# Altium footprint library PcbLibCapasitors.PcbLib: 16 footprints
Each footprint in its own frame and in the unit in brackets; x right, y up, seen from the top. Pads: shape width x height; smd on the part's side, far side on the other; paste and mask are expansions set on the pad; w line width, h text height; cw(c..) or ccw(c..) is an arc to the next point about the centre after c.
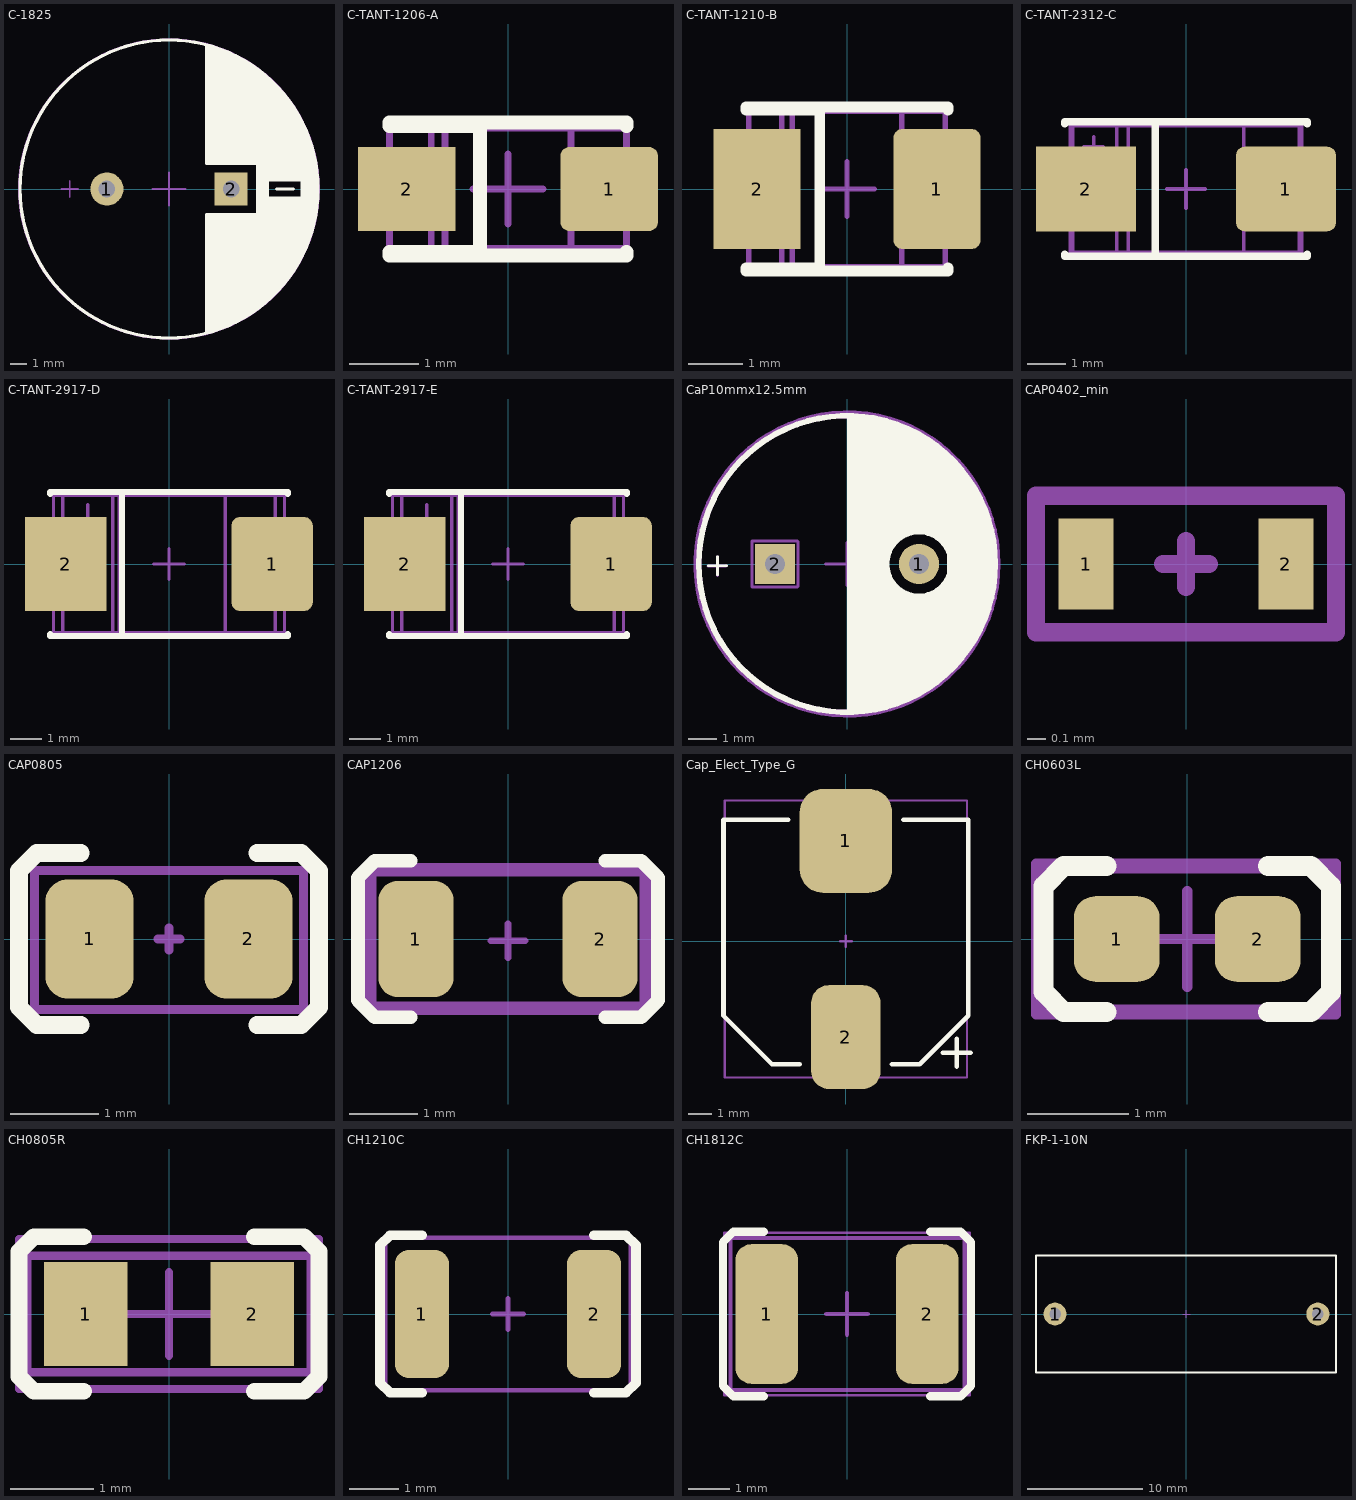
[diagram p0: the footprints below, top view; thin cyan lines are the x and y axes]

## C-1825 [mm] "18mmx25mm"
height 25
pads (2):
  round 2 hole 1: 1(-3.75,0)
  rect 2x2 hole 1: 2(3.75,0)
Top Overlay:
  drawing of 15 lines, arcs and shapes, not listed
TopAssy:
  circle w0.1: c3.75,0 r0.492
  circle w0.1: c-3.75,0 r0.492
  circle w0.1: c0,0 r9.061
  lines w0.1: -6.5,0 -5.5,0 ; -6,-0.5 -6,0.5
Inside:
  circle w0.1: c0,0 r9.001
  lines w0.1: -1,0 1,0 ; 0,-1 0,1
3D body "User Library-4700 16v EEUFC1C472S.step": height 25, standoff -2.8, extent -9,-8.996 9,8.997

## C-TANT-1206-A [mm]
pads (2):
  rrect20% 1.4x1.2 smd: 1(1.45,0)
  rect 1.4x1.2 smd: 2(-1.45,0)
Top Overlay:
  lines w0.2: -1.7,-0.95 1.7,-0.95 1.7,-0.9 ; -1.7,-0.9 -0.4,-0.9 -0.4,0.9 -1.7,0.9 ; -1.7,0.95 1.7,0.95 1.7,0.9
TopAssy:
  lines w0.1: -1.1,-0.85 -1.1,0.85 ; -0.9,-0.85 -0.9,0.85 ; 0.9,-0.9 0.9,0.9 ; -1.7,-0.9 -1.7,0.9 1.7,0.9 1.7,-0.9 -1.7,-0.9
Inside:
  lines w0.1: -0.5,0 0.5,0 ; 0,-0.5 0,0.5 ; -1.7,-0.85 -1.7,0.875 1.7,0.875 1.7,-0.85 -1.7,-0.85
3D body "User Library-AVX_ACASE.step": height 1.71, standoff 0, extent -1.7,-0.84 1.7,0.84

## C-TANT-1210-B [mm]
pads (2):
  rrect20% 1.6x2.2 smd: 1(1.65,0)
  rect 1.6x2.2 smd: 2(-1.65,0)
Top Overlay:
  lines w0.2: -1.85,-1.5 1.85,-1.5 1.85,-1.45 ; -1.85,-1.45 -0.5,-1.45 -0.5,1.45 -1.85,1.45 ; -1.85,1.5 1.85,1.5 1.85,1.45
TopAssy:
  lines w0.1: -1.2,-1.5 -1.2,1.5 ; -1,-1.5 -1,1.5 ; 1,-1.5 1,1.5 ; -1.8,-1.5 1.8,-1.5 1.8,1.5 -1.8,1.5 -1.8,-1.5
Inside:
  lines w0.1: -0.5,0 0.5,0 ; 0,-0.5 0,0.5 ; -1.8,-1.425 -1.8,1.425 1.8,1.425 1.8,-1.425 -1.8,-1.425
3D body "User Library-AVX_BCASE.step": height 2.03, standoff 0, extent -1.85,-1.465 1.85,1.465

## C-TANT-2312-C [mm]
pads (2):
  rrect20% 2.6x2.2 smd: 1(2.6,0)
  rect 2.6x2.2 smd: 2(-2.6,0)
Top Overlay:
  lines w0.2: -3.15,-1.7 -3.15,-1.75 3.15,-1.75 3.15,-1.7 ; -3.15,1.7 -3.15,1.75 3.15,1.75 3.15,1.7 ; -0.8,-1.75 -0.8,1.75
TopAssy:
  lines w0.1: -2.65,1.1 -2.15,1.1 ; -2.4,0.85 -2.4,1.35 ; -1.8,-1.7 -1.8,1.7 ; -1.5,-1.7 -1.5,1.7 ; 1.5,-1.7 1.5,1.7 ; -3,-1.7 3,-1.7 3,1.7 -3,1.7 -3,-1.7
Inside:
  lines w0.1: -0.5,0 0.5,0 ; 0,-0.5 0,0.5 ; -2.95,-1.65 -2.95,1.65 2.95,1.65 2.95,-1.65 -2.95,-1.65
3D body "User Library-AVX_C_CASE.step": height 2.7, standoff 0, extent -3.05,-1.675 3.05,1.675

## C-TANT-2917-D [mm]
pads (2):
  rrect20% 2.6x3 smd: 1(3.3,0)
  rect 2.6x3 smd: 2(-3.3,0)
Top Overlay:
  lines w0.2: -3.8,-2.25 -3.8,-2.3 3.8,-2.3 3.8,-2.25 ; -3.8,2.25 -3.8,2.3 3.8,2.3 3.8,2.25 ; -1.5,-2.3 -1.5,2.3
TopAssy:
  lines w0.1: -3.4,-1 -3.8,-1 -3.8,1.1 -3.4,1.1 ; -3.1,1.4 -2.6,1.4 ; -2.6,0.9 -2.6,1.4 ; -2.6,1.9 -2.6,1.4 ; -2.1,1.4 -2.6,1.4 ; -1.8,-2.2 -1.8,2.2 ; -1.6,-2.2 -1.6,2.2 ; 1.8,-2.2 1.8,2.2 ; 3.4,-1.1 3.8,-1.1 3.8,1 3.4,1 ; -3.4,-2.2 -3.4,2.2 3.4,2.2 3.4,-2.2 -3.4,-2.2
Inside:
  lines w0.1: -0.5,0 0.5,0 ; 0,-0.5 0,0.5 ; -3.7,-2.2 3.7,-2.2 3.7,2.2 -3.7,2.2 -3.7,-2.2
3D body "User Library-AVX_D_CASE.step": height 3.01, standoff 0, extent -3.7,-2.225 3.7,2.225

## C-TANT-2917-E [mm]
pads (2):
  rrect20% 2.6x3 smd: 1(3.3,0)
  rect 2.6x3 smd: 2(-3.3,0)
Top Overlay:
  lines w0.2: -3.8,-2.25 -3.8,-2.3 3.8,-2.3 3.8,-2.25 ; -3.8,2.25 -3.8,2.3 3.8,2.3 3.8,2.25 ; -1.5,-2.3 -1.5,2.3
TopAssy:
  lines w0.1: -3.4,-1 -3.8,-1 -3.8,1.1 -3.4,1.1 ; -3.1,1.4 -2.6,1.4 ; -2.6,0.9 -2.6,1.4 ; -2.6,1.9 -2.6,1.4 ; -2.1,1.4 -2.6,1.4 ; -1.8,-2.2 -1.8,2.2 ; -1.6,-2.2 -1.6,2.2 ; 3.4,-1.1 3.8,-1.1 3.8,1 3.4,1 ; -3.4,-2.2 -3.4,2.2 3.4,2.2 3.4,-2.2 -3.4,-2.2
Inside:
  lines w0.1: -0.5,0 0.5,0 ; 0,-0.5 0,0.5 ; -3.7,-2.2 -3.7,2.2 3.7,2.2 3.7,-2.2 -3.7,-2.2
3D body "User Library-AVX_E_CASE.STEP": height 4.2, standoff 0, extent -3.7,-2.225 3.7,2.225

## CaP10mmx12.5mm [mm] "CaP10mmx12.5mm"
pads (2):
  round 1.4 hole 0.7: 1(2.5,0)
  rect 1.4x1.4 hole 0.7: 2(-2.5,0)
Top Overlay:
  circle w0.254: c2.5,0 r1.152
  circle w0.2: c0,0 r5.15
  rectangle: 3.475,-0.875 3.925,0.825
  rectangle: 1.525,-4.8 2.025,-0.95
  rectangle: 1.925,-4.625 2.425,-1.125
  rectangle: 2.225,-4.25 2.925,-1.175
  rectangle: 2.825,-3.975 3.325,-1
  rectangle: 3.275,-3.55 3.775,-0.7
  rectangle: 3.7,-3.05 4.2,0
  rectangle: 4.175,-2.125 4.675,0
  rectangle: 4.65,-1 5.15,0
  rectangle: 4.65,-0.1 5.15,1
  rectangle: 4.175,-0.1 4.675,2.125
  rectangle: 3.7,-0.1 4.2,3.05
  rectangle: 3.275,0.7 3.775,3.55
  rectangle: 2.825,1 3.325,3.975
  rectangle: 2.225,1.175 2.925,4.25
  rectangle: 1.925,1.125 2.425,4.625
  rectangle: 1.525,-4.8 2.025,-0.95
  rectangle: 1.525,0.95 2.025,4.8
  rectangle: 0.7,-0.675 1.475,0.625
  rectangle: 0.7,-4.975 1.65,-0.55
  rectangle: 0.7,0.6 1.65,4.975
  rectangle: 0,-5.125 0.95,5.175
  region: 1.825,-4.375 1.825,-3.325 4.3,-0.85 5,-0.85 5.15,-1 4.875,-1.275 4.875,-1.725 4.625,-1.975 4.625,-2.4 4.2,-2.825 4.2,-3.125 3.35,-3.975 3.25,-3.975 2.875,-4.35 2.725,-4.35 2.45,-4.625 2.425,-4.625
  region: 1.825,4.375 1.825,3.325 4.3,0.85 5,0.85 5.15,1 4.875,1.275 4.875,1.725 4.625,1.975 4.625,2.4 4.2,2.825 4.2,3.125 3.35,3.975 3.25,3.975 2.875,4.35 2.725,4.35 2.45,4.625 2.425,4.625
  lines w0.1: -4.812,-0.062 -4.187,-0.062 ; -4.5,-0.375 -4.5,0.25
TopAssy:
  circle w0.254: c2.5,0 r0.46
  circle w0.254: c-2.5,0.025 r0.46
  circle w0.2: c0,0 r5.159
  lines w0.1: -4.825,-0.075 -4.225,-0.075 -4.2,-0.05 ; -4.5,-0.4 -4.5,0.25 ; -3.3,-0.8 -1.725,-0.8 -1.7,-0.775 -1.7,0.775 -1.725,0.8 -3.3,0.8 -3.3,-0.8
Inside:
  circle w0.254: c0,0 r5.21
  lines w0.1: -0.75,0 0,0 ; 0,-0.75 0,0 ; 0,0.75 0,0 ; 0.75,0 0,0
3D body "User Library-CapAluRadial_D100H125.STEP": height 14.5, standoff -2.5, extent -5.25,-5.249 5.25,5.249

## CAP0402_min [mm]
pads (2):
  rect 0.3x0.5 smd mask+0.07: 1(-0.55,0) 2(0.55,0)
TopAssy:
  lines w0.1: -0.825,-0.375 -0.825,0.375 0.825,0.375 0.825,-0.375 -0.825,-0.375
Inside:
  lines w0.1: -0.125,0 0.125,0 ; 0,-0.125 0,0.125
3D body "User Library-User Library-0402_Cap.STEP": height 0.51, standoff 0, extent -0.73,-0.246 0.73,0.254

## CAP0805 [mm]
pads (2):
  rrect50% 1x1.35 smd: 1(-0.9,0) 2(0.9,0)
Top Overlay:
  lines w0.2: -1,-0.975 -1.4,-0.975 -1.5,-0.975 -1.7,-0.775 -1.7,-0.75 -1.7,0 -1.7,0.75 -1.7,0.775 -1.5,0.975 -1.4,0.975 -1,0.975 ; 1,-0.975 1.4,-0.975 1.5,-0.975 1.7,-0.775 1.7,-0.75 1.7,0 1.7,0.75 1.7,0.775 1.5,0.975 1.4,0.975 1,0.975
TopAssy:
  lines w0.1: -1.525,-0.8 1.525,-0.8 1.525,0.775 -1.525,0.775 -1.525,-0.8
Inside:
  lines w0.1: -0.125,0 0.125,0 ; 0,-0.125 0,0.125
3D body "C-0805.STEP": height 0.7, standoff -0.08, extent -0.95,-0.625 1.05,0.625

## CAP1206 [mm]
pads (2):
  rrect50% 1.1x1.7 smd: 1(-1.35,0) 2(1.35,0)
Top Overlay:
  lines w0.2: -1.425,-1.15 -1.95,-1.15 -2.2,-0.9 -2.2,0 -2.2,0.9 -1.95,1.15 -1.425,1.15 ; 1.425,-1.15 1.95,-1.15 2.2,-0.9 2.2,0 2.2,0.9 1.95,1.15 1.425,1.15
TopAssy:
  lines w0.2: -2.032,-1.016 -2.032,1.016 2.032,1.016 2.032,-1.016 -2.032,-1.016
Inside:
  lines w0.1: -0.25,-0.025 0.25,-0.025 ; 0,-0.275 0,0.225
3D body "C-1206.STEP": height 1, standoff 0, extent -1.575,-0.775 1.625,0.825

## Cap_Elect_Type_G [mm]
pads (2):
  rrect50% 4x4.5 smd: 1(0,4.35)
  rrect50% 3x4.5 smd: 2(0,-4.15)
Top Overlay:
  lines w0.2: -2.5,5.275 -5.3,5.275 -5.3,-3.225 -3.2,-5.325 -2,-5.325 ; 2,-5.325 3.2,-5.325 5.3,-3.225 5.3,5.275 2.5,5.275 ; 4.2,-4.825 5.4,-4.825 ; 4.8,-5.425 4.8,-4.225
TopAssy:
  lines w0.1: -5.25,-5.9 -5.25,6.1 5.225,6.1 5.25,6.075 5.25,-5.9 -5.25,-5.9
Inside:
  lines w0.1: -0.25,0 0.25,0 ; 0,-0.25 0,0.25
3D body "CAP Alum Elec Size G.STEP": height 10.5, standoff 0, extent -5.25,-5.9 5.25,6.1

## CH0603L [mm]
height 0.8
pads (2):
  rrect50% 0.85x0.85 smd: 1(-0.7,0) 2(0.7,0)
Top Overlay:
  lines w0.2: -0.8,-0.725 -1.225,-0.725 -1.425,-0.525 -1.425,0.525 -1.225,0.725 -0.8,0.725 ; 0.8,-0.725 1.225,-0.725 1.425,-0.525 1.425,0.525 1.225,0.725 0.8,0.725
TopAssy:
  lines w0.1: -1.5,-0.75 1.475,-0.75 1.475,0.75 -1.5,0.75 -1.5,-0.75
Inside:
  lines w0.1: -0.125,0 0.125,0 ; 0,-0.125 0,0.125
Mechanical 15:
  lines w0.1: -0.475,0 0.475,0 ; 0,-0.475 0,0.475 ; -1.4,-0.7 -1.4,0.7 1.4,0.7 1.4,-0.7 -1.4,-0.7
3D body "C-0603.STEP": height 0.3, standoff 0, extent -0.8,-0.4 0.8,0.4

## CH0805R [mm]
height 0.45
pads (2):
  rect 1x1.25 smd: 1(-1,0) 2(1,0)
Top Overlay:
  lines w0.2: -1.025,-0.925 -1.5,-0.925 -1.625,-0.925 -1.8,-0.75 -1.8,0 -1.8,0.75 -1.625,0.925 -1.5,0.925 -1.025,0.925 ; 1.025,-0.925 1.5,-0.925 1.625,-0.925 1.8,-0.75 1.8,0 1.8,0.75 1.625,0.925 1.5,0.925 1.025,0.925
TopAssy:
  lines w0.1: -1.8,-0.9 1.8,-0.9 1.8,0.9 -1.8,0.9 -1.8,-0.9
Inside:
  lines w0.1: -0.25,0 0,0 ; 0,-0.25 0,0 ; 0,0.25 0,0 ; 0.25,0 0,0
Mechanical 15:
  lines w0.1: -0.5,0 0.5,0 ; 0,-0.5 0,0.5 ; -1.7,-0.7 1.7,-0.7 1.7,0.7 -1.7,0.7 -1.7,-0.7
3D body "chip_0805_r.STEP": height 0.44, standoff -0.02, extent -1,-0.6 1,0.6

## CH1210C [mm] "Non polar chip capacitor, size 1210"
height 2.5
pads (2):
  rrect50% 1.1x2.6 smd: 1(-1.75,0) 2(1.75,0)
Top Overlay:
  lines w0.2: -1.75,-1.6 -2.25,-1.6 -2.4,-1.6 -2.6,-1.4 -2.6,-1.225 -2.6,0 -2.6,1.225 -2.6,1.4 -2.4,1.6 -2.25,1.6 -1.75,1.6 ; 1.75,-1.6 2.25,-1.6 2.4,-1.6 2.6,-1.4 2.6,-1.225 2.6,0 2.6,1.225 2.6,1.4 2.4,1.6 2.25,1.6 1.75,1.6
TopAssy:
  lines w0.1: -2.5,-1.55 -2.5,1.55 2.5,1.55 2.5,-1.55 -2.5,-1.55
Inside:
  lines w0.1: -0.313,0 0.312,0 ; 0,-0.313 0,0.312
3D body "User Library-1210(3225M) Cap.STEP": height 1.7, standoff 0, extent -2,-1.244 2,1.245

## CH1812C [mm]
height 1.4
pads (2):
  rrect50% 1.5x3.35 smd: 1(-1.925,0) 2(1.925,0)
Top Overlay:
  lines w0.2: -2,-1.975 -2.725,-1.975 -2.975,-1.725 -2.975,-1.5 -2.975,0 -2.975,1.5 -2.975,1.725 -2.725,1.975 -2,1.975 ; 2,-1.975 2.725,-1.975 2.975,-1.725 2.975,-1.5 2.975,0 2.975,1.5 2.975,1.725 2.725,1.975 2,1.975
TopAssy:
  lines w0.1: -2.8,-1.825 2.825,-1.825 2.825,1.825 -2.8,1.825 -2.8,-0.075 -2.8,-1.825
Inside:
  lines w0.1: -0.188,0 0.188,0 ; 0,-0.188 0,0.188
Mechanical 15:
  lines w0.05: -2.95,-1.95 2.95,-1.95 2.95,1.95 -2.95,1.95 -2.95,-1.95
  lines w0.1: -0.5,0 0.5,0 ; 0,-0.5 0,0.5
3D body "SW3dPS-1812 SMD Capacitor.STEP": height 1.6, standoff 0, extent -2.25,-1.6 2.25,1.6

## FKP-1-10N [mm]
pads (2):
  round 2 hole 1: 1(-11.4,0) 2(11.4,0)
Top Overlay:
  lines w0.2: -13.05,-5.075 -13.05,5.075 12.975,5.075 12.975,-5.075 -13.05,-5.075
Inside:
  lines w0.1: -0.312,0 0.313,0 ; 0,-0.313 0,0.312
3D body "FKP-1-10N.STEP": height 20.25, standoff -6.05, extent -13.05,-5.08 13.05,5.08